# EAGLE library part CPL-CON-JST-2.0MM-14P-M-VRT (library TinWhiskers)
Connector: 2.0MM Pitch, 1-Row, 14-Pos, Vertical; Package: Thru-Hole; Datasheet: http://www.jst-mfg.com/product/pdf/eng/ePH.pdf
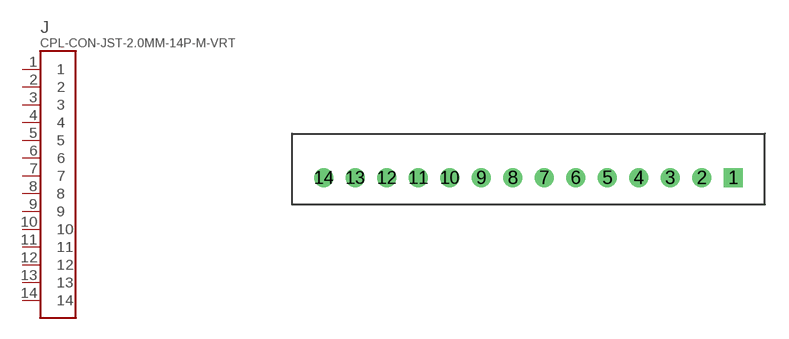
[diagram p34: symbol with the pads of CON-JST-PH-2.0MM-14P-VRT; footprint CON-JST-PH-2.0MM-14P-VRT]

Designator prefix J

## CPL-CON-JST-2.0MM-14P-M-VRT  [CON-JST-PH-2.0MM-14P-VRT]
1  1
2  2
3  3
4  4
5  5
6  6
7  7
8  8
9  9
10  10
11  11
12  12
13  13
14  14

## Footprint CON-JST-PH-2.0MM-14P-VRT (pad centres in mm)
Connector: 2.0MM Pitch, Vertical, 14-Pin; Package: Thru-Hole; Datasheet: http://www.jst-mfg.com/product/pdf/eng/ePH.pdf
drill 0.7 square: 1 13,0
drill 0.7: 2 11,0; 3 9,0; 4 7,0; 5 5,0; 6 3,0; 7 1,0; 8 -1,0; 9 -3,0; 10 -5,0; 11 -7,0; 12 -9,0; 13 -11,0; 14 -13,0